# EAGLE library part INA700AYWFR (library edrtech_lib)
Current & Power Monitors & Regulators 40-V16-BitIC output digital power monitor in WCSP withEZShunt Technology 8-DSBGA -40 to 125 Source: Datasheet <https://www.ti.com/lit/ds/symlink/ina700.pdf?ts=1715161211623&ref_url=https%3A%2F%2Fwww.ti.com%2Fproduct%2FINA700%2Fpart-details%2FINA700AYWFR>
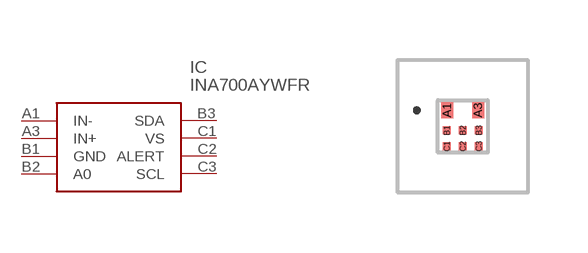
[diagram p54: symbol with the pads of INA700AYWFR; footprint INA700AYWFR]

Designator prefix IC

## INA700AYWFR (DESCRIPTION: Current & Power Monitors & Regulators 40-V16-BitIC output digital power monitor in WCSP withEZShunt Technology 8-DSBGA -40 to 125; HEIGHT: 0.3mm; MANUFACTURER_NAME: Texas Instruments; MANUFACTURER_PART_NUMBER: INA700AYWFR)  [INA700AYWFR]
A1  IN-
A3  IN+
B1  GND
B2  A0
B3  SDA
C1  VS
C2  ALERT
C3  SCL

## Footprint INA700AYWFR (pad centres in mm)
INA700AYWFR-5
smd 0.3 x 0.404: A1 -0.387,0.4; A3 0.387,0.4
smd 0.2 x 0.2: B1 -0.4,-0.102; B2 0,-0.102; B3 0.4,-0.102; C1 -0.4,-0.502; C2 0,-0.502; C3 0.4,-0.502